# Altium schematic symbol library Udemy_Schematic_LIB.SchLib: 50 symbols
Pins are listed as number, name and electrical type; pins without a type are passive.

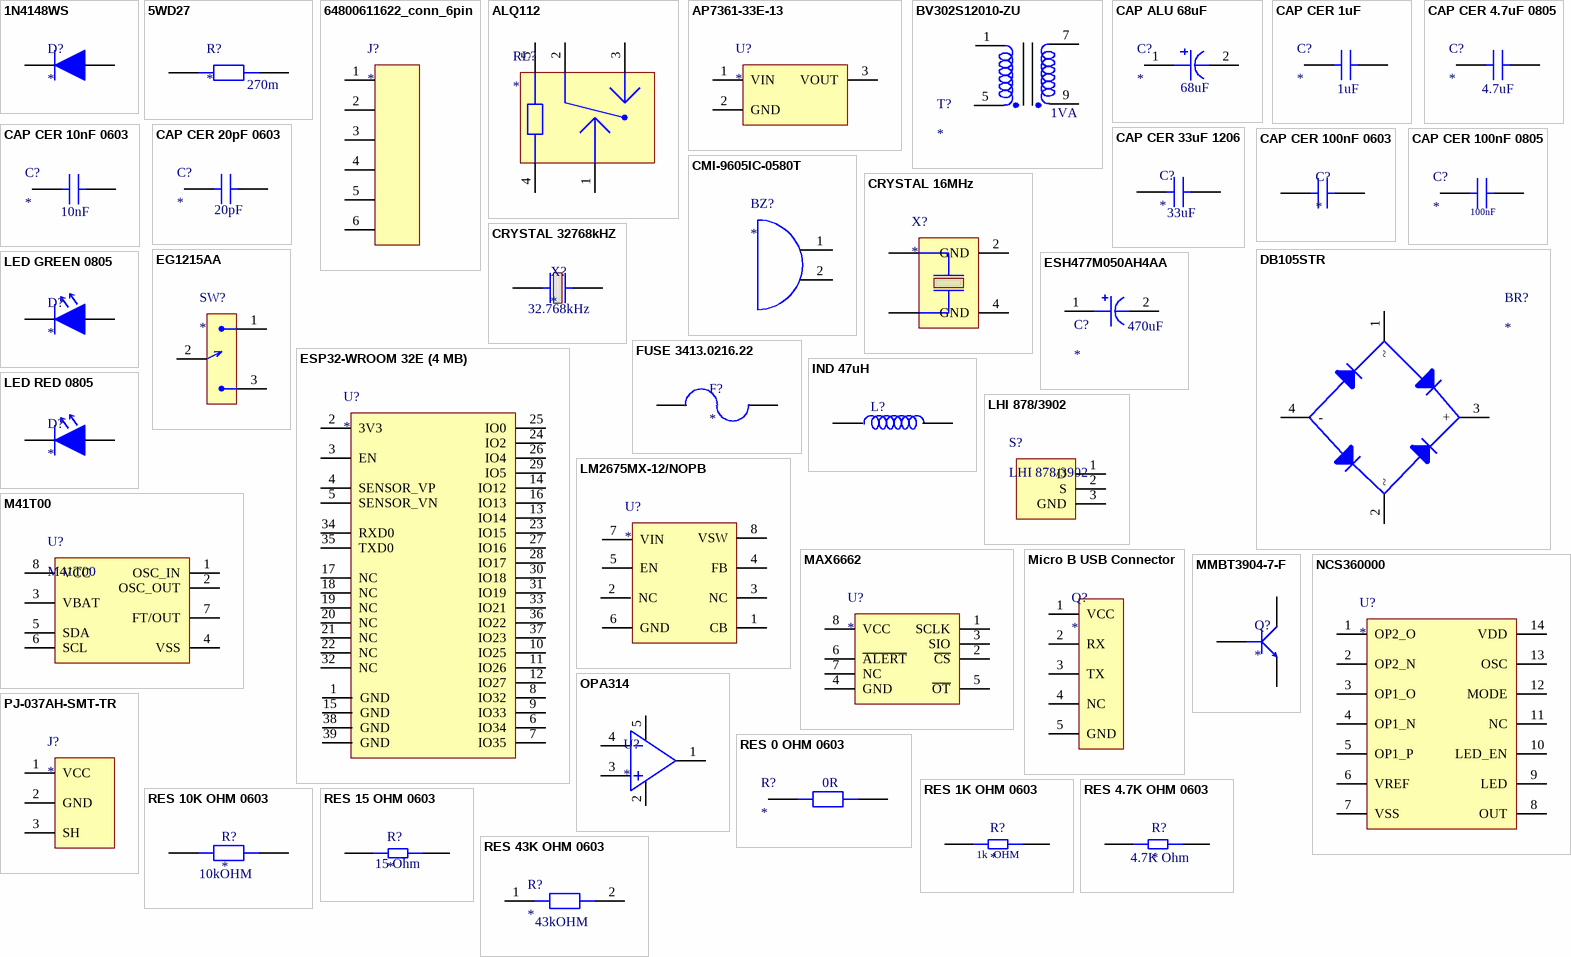
[diagram p0: symbols 1N4148WS to RES 43K OHM 0603]

## 1N4148WS
designator D?
VR=75V IF=150mA Trr=4ns P=200mW; Manufacturer: ON Semiconductor / Fairchild; Manufacturer Part Number: 1N4148WS; Supplier 1: Future Electronics; RoHS: Yes; Category: Rectifier Diodes; Stock 1: 423000; Pricing 1: 3000=0.0191, 12000=0.0183, 45000=0.0175, 75000=0.0173, 150000=0.0164 (USD); ComponentLink1URL: https://datasheet.ciiva.com/30479/0900766b810e1cd3-30479206.pdf?src-supplier=Rs; ComponentLink1Description: https://datasheet.ciiva.com/30479/0900766b810e1cd3-30479206.pdf?src-supplier=Rs; ComponentLink2URL: https://datasheet.ciiva.com/8300/1n914bws-8300360.pdf?src-supplier=Avnet; ComponentLink2Description: https://datasheet.ciiva.com/8300/1n914bws-8300360.pdf?src-supplier=Avnet; ComponentLink3URL: https://datasheet.ciiva.com/15208/getdatasheetpartid-127819-15208358.pdf?src-supplier=Verical; ComponentLink3Description: https://datasheet.ciiva.com/15208/getdatasheetpartid-127819-15208358.pdf?src-supplier=Verical; ComponentLink4URL: https://datasheet.ciiva.com/910/1n4148ws-910380.pdf?src-supplier=Digi-Key; ComponentLink4Description: https://datasheet.ciiva.com/910/1n4148ws-910380.pdf?src-supplier=Digi-Key; ComponentLink5URL: https://datasheet.ciiva.com/910/1n4148ws-910381.pdf?src-supplier=Digi-Key; ComponentLink5Description: https://datasheet.ciiva.com/910/1n4148ws-910381.pdf?src-supplier=Digi-Key; ComponentLink6URL: https://datasheet.ciiva.com/910/1n4148ws-910382.pdf?src-supplier=Digi-Key; ComponentLink6Description: https://datasheet.ciiva.com/910/1n4148ws-910382.pdf?src-supplier=Digi-Key; Supplier Part Number 1: 8814485
footprint SOD323F
pins: 1 (power), 2 (power)

## 5WD27
designator R?  Resistance: 270m
footprint RES_AXIAL_W
pins: 1, 2

## 64800611622_conn_6pin
designator J?
footprint 64800611622
pins: 1 (power), 2 (power), 3 (power), 4 (power), 5 (power), 6 (power)

## ALQ112
designator RL?
Case/Package: ALQ112
footprint ALQ112
pins: 1, 2, 3, 4, 5

## AP7361-33E-13
designator U?
AP7361 Series 3.3 V 1 A Low SMT Dropout Fixed-Mode Regulator - SOT-223; Manufacturer: Diodes; Manufacturer Part Number: AP7361-33E-13; Supplier 1: Future Electronics; RoHS: Yes; Category: Voltage Regulators - Linear; Stock 1: 15000; Pricing 1: 2500=0.17, 7500=0.166, 12500=0.163, 50000=0.158, 75000=0.154 (USD); ComponentLink1URL: https://datasheet.ciiva.com/26926/getdatasheetpartid-670786-26926141.pdf?src-supplier=Verical; ComponentLink1Description: https://datasheet.ciiva.com/26926/getdatasheetpartid-670786-26926141.pdf?src-supplier=Verical; ComponentLink2URL: https://datasheet.ciiva.com/25651/ap7361-25651049.pdf?src-supplier=Digi-Key; ComponentLink2Description: https://datasheet.ciiva.com/25651/ap7361-25651049.pdf?src-supplier=Digi-Key; ComponentLink3URL: https://datasheet.ciiva.com/29568/ap7361-29568378.pdf?src-supplier=Digi-Key; ComponentLink3Description: https://datasheet.ciiva.com/29568/ap7361-29568378.pdf?src-supplier=Digi-Key; ComponentLink4URL: https://datasheet.ciiva.com/29568/ap7361-29568379.pdf?src-supplier=Digi-Key; ComponentLink4Description: https://datasheet.ciiva.com/29568/ap7361-29568379.pdf?src-supplier=Digi-Key; Supplier Part Number 1: 4058800; Case/Package: SOT223
footprint SOT223
pins: 1 VIN, 2 GND, 3 VOUT

## BV302S12010-ZU
designator T?  Rated Power: 1VA
Primary Voltage: 230V; Secondary Voltage: 12V; Operating Frequency: 50-60 Hz
footprint BV302S
pins: 1, 5, 7, 9

## CAP ALU 68uF
designator C?  Capacitance: 68uF
footprint CAP EEVSERIES
pins: 1, 2

## CAP CER 1uF
designator C?  Cap: 1uF
footprint CAP 0805
pins: 1, 2

## CAP CER 4.7uF 0805
designator C?  Cap: 4.7uF
CAP CER 4.7UF 25V X5R 0805; Manufacturer: Samsung; Manufacturer Part Number: CL21A475KAQNNNE; Supplier 1: Arrow Electronics; RoHS: Yes; Category: Ceramic Capacitors; Stock 1: 906000; Pricing 1: 2000=0.0173, 4000=0.0169, 10000=0.0146, 14000=0.0133, 50000=0.0114, 100000=0.0096, 200000=0.0089 (USD); ComponentLink1URL: https://datasheet.ciiva.com/25798/cl21a475kaqnnne-25798882.pdf?src-supplier=Digi-Key; ComponentLink1Description: https://datasheet.ciiva.com/25798/cl21a475kaqnnne-25798882.pdf?src-supplier=Digi-Key; Supplier Part Number 1: CL21A475KAQNNNE
footprint CAP 0805
pins: 1, 2

## CAP CER 10nF 0603
designator C?  Capacitance: 10nF
footprint CAP_0603
pins: 1, 2

## CAP CER 20pF 0603
designator C?  Cap: 20pF
footprint CAP_0603
pins: 1, 2

## CAP CER 33uF 1206
designator C?  Capacitance: 33uF
footprint CAP_1206
pins: 1, 2

## CAP CER 100nF 0603
designator C?
Case/Package: 0603
footprint CAP_0603
pins: 1, 2

## CAP CER 100nF 0805
designator C?  Capacitance: 100nF
Multilayer Ceramic Capacitor, VJ Series, 0.1 - F, - 10%, X7R, 50 V, 0805 [2012 Metric]; Manufacturer: Vishay Vitramon; Manufacturer Part Number: VJ0805Y104KNAAT; Voltage Rating (DC): 50V; Supplier 1: Farnell; RoHS: Yes; Category: Ceramic Capacitors; Pricing 1: 5=0.523, 50=0.312, 250=0.297, 500=0.214, 1500=0.201, 3000=0.17, 15000=0.15, 30000=0.147 (EUR); Mount: Surface Mount; Case/Package: 0805; Case Code (Metric): 2012; Case Code (Imperial): 0805; Min Operating Temperature: -55°C; Max Operating Temperature: 125°C; Tolerance: 10%; Dielectric: X7R; Packaging: Tape and Reel; Termination: SMD/SMT; Series: VJ; Package Quantity: 1; Construction: Flat; Voltage Rating: 50V; Voltage: 50V; Length: 2mm; Width: 0.049inch; Height: 1.45mm; Depth: 1.25mm; Thickness: 0.057inch; Radiation Hardening: No; RoHS Compliant: Yes; Reach SVHC Compliant: Unknown; ComponentLink1URL: https://datasheet.ciiva.com/11785/0900766b8104796c-11785977.pdf?src-supplier=Rs; ComponentLink1Description: https://datasheet.ciiva.com/11785/0900766b8104796c-11785977.pdf?src-supplier=Rs; ComponentLink2URL: https://datasheet.ciiva.com/46417/1805046-46417861.pdf?src-supplier=Element14; ComponentLink2Description: https://datasheet.ciiva.com/46417/1805046-46417861.pdf?src-supplier=Element14; ComponentLink3URL: https://datasheet.ciiva.com/46417/1805046-46417862.pdf?src-supplier=Element14; ComponentLink3Description: https://datasheet.ciiva.com/46417/1805046-46417862.pdf?src-supplier=Element14; ComponentLink4URL: https://datasheet.ciiva.com/148/nonmagneticepoxybond-148471.pdf?src-supplier=Digi-Key; ComponentLink4Description: https://datasheet.ciiva.com/148/nonmagneticepoxybond-148471.pdf?src-supplier=Digi-Key; ComponentLink5URL: https://datasheet.ciiva.com/148/nonmagneticepoxybond-148472.pdf?src-supplier=Digi-Key; ComponentLink5Description: https://datasheet.ciiva.com/148/nonmagneticepoxybond-148472.pdf?src-supplier=Digi-Key; ComponentLink6URL: https://datasheet.ciiva.com/148/nonmagneticepoxybond-148473.pdf?src-supplier=Digi-Key; ComponentLink6Description: https://datasheet.ciiva.com/148/nonmagneticepoxybond-148473.pdf?src-supplier=Digi-Key; Supplier Part Number 1: 2407330
footprint CAP 0805
pins: 1, 2

## CMI-9605IC-0580T
designator BZ?
Audio Buzzer Magnetic 3VDC 7VDC 30mA 5VDC 85dB 2600Hz to 2800Hz Through Hole Pin Box; Manufacturer: CUI Devices; Manufacturer Part Number: CMI-9605IC-0580T; Supplier 1: Arrow Electronics; RoHS: No; Category: Audio Products; Stock 1: 1; Pricing 1: 1=1.3577, 10=1.146, 25=1.0571, 50=0.9935, 100=0.9263, 300=0.797, 600=0.7855 (USD); Supplier 2: Arrow Electronics; Stock 2: 1; Pricing 2: 1=1.3577, 10=1.146, 25=1.0571, 50=0.9935, 100=0.9263, 300=0.797, 600=0.7855 (USD); Supplier Part Number 2: CMI-9605IC-0580T; Case/Package: CMI-9605IC
footprint CMI-9605IC
pins: 1, 2

## CRYSTAL 16MHz
designator X?
Crystal 16MHz ±30ppm (Tol) ±50ppm (Stability) 20pF FUND 50Ohm 4-Pin Mini-SMD T/R; Manufacturer: Abracon; Manufacturer Part Number: ABS05-32.768KHZ-T; Supplier 1: Future Electronics; RoHS: Yes; Category: Crystals; Stock 1: 2890; Pricing 1: 1=0.85, 15=0.75, 75=0.69, 300=0.64, 1500=0.58 (USD); ComponentLink1URL: https://datasheet.ciiva.com/23810/abs05-23810480.pdf?src-supplier=Newark; ComponentLink1Description: https://datasheet.ciiva.com/23810/abs05-23810480.pdf?src-supplier=Newark; ComponentLink2URL: https://datasheet.ciiva.com/6728/abs05-6728949.pdf?src-supplier=Digi-Key; ComponentLink2Description: https://datasheet.ciiva.com/6728/abs05-6728949.pdf?src-supplier=Digi-Key; ComponentLink3URL: https://datasheet.ciiva.com/6728/abs05-6728950.pdf?src-supplier=Digi-Key; ComponentLink3Description: https://datasheet.ciiva.com/6728/abs05-6728950.pdf?src-supplier=Digi-Key; ComponentLink4URL: https://datasheet.ciiva.com/16411/abs05-16411149.pdf?src-supplier=Future+Electronics; ComponentLink4Description: https://datasheet.ciiva.com/16411/abs05-16411149.pdf?src-supplier=Future+Electronics; Supplier Part Number 1: 4097386; Supplier 2: Arrow Electronics; Stock 2: 17; Pricing 2: 1=0.8053, 10=0.7919 (USD); ComponentLink5URL: https://datasheet.ciiva.com/853/ecx-53b-853408.pdf?src-supplier=Digi-Key; ComponentLink5Description: https://datasheet.ciiva.com/853/ecx-53b-853408.pdf?src-supplier=Digi-Key; ComponentLink6URL: https://datasheet.ciiva.com/853/ecx-53b-853407.pdf?src-supplier=Digi-Key; ComponentLink6Description: https://datasheet.ciiva.com/853/ecx-53b-853407.pdf?src-supplier=Digi-Key; ComponentLink7URL: https://datasheet.ciiva.com/853/ecx-53b-853406.pdf?src-supplier=Digi-Key; ComponentLink7Description: https://datasheet.ciiva.com/853/ecx-53b-853406.pdf?src-supplier=Digi-Key; Supplier Part Number 2: ECS-160-20-30B-TR
footprint ECS
pins: 1, 2 GND, 3, 4 GND

## CRYSTAL 32768kHZ
designator X?  FREQ: 32.768kHz
Crystal 0.032768MHz ±20ppm (Tol) 12.5pF Flexural 90000Ohm 2-Pin CSMD T/R; Manufacturer: Abracon; Manufacturer Part Number: ABS05-32.768KHZ-T; Supplier 1: Future Electronics; RoHS: Yes; Category: Crystals; Stock 1: 2890; Pricing 1: 1=0.85, 15=0.75, 75=0.69, 300=0.64, 1500=0.58 (USD); ComponentLink1URL: https://datasheet.ciiva.com/23810/abs05-23810480.pdf?src-supplier=Newark; ComponentLink1Description: https://datasheet.ciiva.com/23810/abs05-23810480.pdf?src-supplier=Newark; ComponentLink2URL: https://datasheet.ciiva.com/6728/abs05-6728949.pdf?src-supplier=Digi-Key; ComponentLink2Description: https://datasheet.ciiva.com/6728/abs05-6728949.pdf?src-supplier=Digi-Key; ComponentLink3URL: https://datasheet.ciiva.com/6728/abs05-6728950.pdf?src-supplier=Digi-Key; ComponentLink3Description: https://datasheet.ciiva.com/6728/abs05-6728950.pdf?src-supplier=Digi-Key; ComponentLink4URL: https://datasheet.ciiva.com/16411/abs05-16411149.pdf?src-supplier=Future+Electronics; ComponentLink4Description: https://datasheet.ciiva.com/16411/abs05-16411149.pdf?src-supplier=Future+Electronics; Supplier Part Number 1: 4097386
footprint AB505
pins: 1, 2

## DB105STR
designator BR?
Bridge Rect 1PHASE 600V 1A Db-s; Manufacturer: SMC; Manufacturer Part Number: DB105STR; Supplier 1: Future Electronics; RoHS: No; Category: Industrial Control; Pricing 1: 1500=0.0744, 4500=0.0716, 15000=0.0686, 30000=0.067, 60000=0.064 (USD); Mount: Surface Mount; Case/Package: SMD/SMT; Min Operating Temperature: -55°C; Max Operating Temperature: 150°C; Packaging: Tape and Reel; Average Rectified Current: 1A; ComponentLink1URL: http://www.smc-diodes.com/propdf/DB101S%20THRU%20DB107S%20N1459%20REV.B.pdf?src-supplier=Digi-Key; ComponentLink1Description: http://www.smc-diodes.com/propdf/DB101S%20THRU%20DB107S%20N1459%20REV.B.pdf?src-supplier=Digi-Key; Supplier Part Number 1: 5119461; Case/Packag: *
footprint DB1
pins: 1 ~, 2 ~, 3 +, 4 -

## EG1215AA
designator SW?
Slide Switch, SPDT, 0.025A, 24V, SMD; Manufacturer: E-Switch; Manufacturer Part Number: EG1215AA; Mechanical Life: 10000Cycles; Switch Function: On-On; Actuator Type: Standard; Switch Travel: 1.5mm; Operating Force: 150gf; Actuator Length: 1.4mm; Supplier 1: Farnell; RoHS: Yes; Stock 1: 2239; Pricing 1: 1=1.06, 10=0.958, 25=0.831, 50=0.777, 100=0.722 (EUR); Mount: Surface Mount; Min Operating Temperature: -20°C; Max Operating Temperature: 70°C; Throw Configuration: SPDT; Packaging: Cut Tape; Voltage Rating (DC): 24V; Termination: Gull Wing; Electrical Life: 10000Cycles; Series: EG; RoHS Compliant: Yes; ComponentLink1URL: https://media.digikey.com/pdf/Data%20Sheets/E-Switch%20PDFs/EG1215_Series_Ds.pdf?src-supplier=Digi-Key; ComponentLink1Description: https://media.digikey.com/pdf/Data%20Sheets/E-Switch%20PDFs/EG1215_Series_Ds.pdf?src-supplier=Digi-Key; ComponentLink2URL: http://www.farnell.com/datasheets/2645007.pdf?src-supplier=Farnell; ComponentLink2Description: http://www.farnell.com/datasheets/2645007.pdf?src-supplier=Farnell; Supplier Part Number 1: 4050996
footprint EG121
pins: 1, 2, 3

## ESH477M050AH4AA
designator C?  Cap: 470uF
Cap, 470UF, 50V, Alu Elec, Radial; Manufacturer: KEMET; Manufacturer Part Number: ESH477M050AH4AA; Supplier 1: Mouser; RoHS: Yes; Stock 1: 3823; Pricing 1: 1=0.57, 10=0.4, 50=0.302, 100=0.263, 1000=0.263, 10000=0.263 (USD); ComponentLink1URL: https://api.kemet.com/component-edge/download/datasheet/ESH477M050AH4AA.pdf?src-supplier=Digi-Key; ComponentLink1Description: https://api.kemet.com/component-edge/download/datasheet/ESH477M050AH4AA.pdf?src-supplier=Digi-Key; ComponentLink2URL: https://datasheet.octopart.com/ESH477M050AH4AA-KEMET-datasheet-130075338.pdf?src-supplier=Newark; ComponentLink2Description: https://datasheet.octopart.com/ESH477M050AH4AA-KEMET-datasheet-130075338.pdf?src-supplier=Newark; Supplier Part Number 1: 80-ESH477M050AH4AA
footprint CAP_RADIAL_D10_P5
pins: 1, 2

## ESP32-WROOM 32E (4 MB)
designator U?
footprint ESP32-32E
pins: 1 GND, 2 3V3, 3 EN, 4 SENSOR_VP, 5 SENSOR_VN, 6 IO34, 7 IO35, 8 IO32, 9 IO33, 10 IO25, 11 IO26, 12 IO27, 13 IO14, 14 IO12, 15 GND, 16 IO13, 17 NC, 18 NC, 19 NC, 20 NC, 21 NC, 22 NC, 23 IO15, 24 IO2, 25 IO0, 26 IO4, 27 IO16, 28 IO17, 29 IO5, 30 IO18, 31 IO19, 32 NC, 33 IO21, 34 RXD0, 35 TXD0, 36 IO22, 37 IO23, 38 GND, 39 GND

## FUSE 3413.0216.22
designator F?
Fuse Chip Fast Acting 1A 32V SMD Solder Pad 1206 Glass T/R VDE/cULus; Manufacturer: Schurter; Manufacturer Part Number: 3413.0216.22; Supplier 1: Avnet; RoHS: Yes; Category: Fuses; Stock 1: 2000; Pricing 1: 1000=0.37339, 2000=0.3654, 4000=0.35496, 6000=0.34713, 8000=0.33408, 10000=0.32625, 100000=0.31842 (USD); ComponentLink1URL: https://datasheet.ciiva.com/301/typ-usi-1206-301440.pdf?src-supplier=Digi-Key; ComponentLink1Description: https://datasheet.ciiva.com/301/typ-usi-1206-301440.pdf?src-supplier=Digi-Key; ComponentLink2URL: https://datasheet.ciiva.com/14102/qousi1206-data-e-14102903.pdf?src-supplier=Distrelec; ComponentLink2Description: https://datasheet.ciiva.com/14102/qousi1206-data-e-14102903.pdf?src-supplier=Distrelec; ComponentLink3URL: https://datasheet.ciiva.com/16316/typ-usi-1206-16316588.pdf?src-supplier=Future+Electronics; ComponentLink3Description: https://datasheet.ciiva.com/16316/typ-usi-1206-16316588.pdf?src-supplier=Future+Electronics; ComponentLink4URL: https://datasheet.ciiva.com/301/typ-usi-1206-301439.pdf?src-supplier=Digi-Key; ComponentLink4Description: https://datasheet.ciiva.com/301/typ-usi-1206-301439.pdf?src-supplier=Digi-Key; ComponentLink5URL: https://datasheet.ciiva.com/301/typ-usi-1206-301441.pdf?src-supplier=Digi-Key; ComponentLink5Description: https://datasheet.ciiva.com/301/typ-usi-1206-301441.pdf?src-supplier=Digi-Key; ComponentLink6URL: https://datasheet.ciiva.com/8264/typ-usi-1206-8264583.pdf?src-supplier=Avnet; ComponentLink6Description: https://datasheet.ciiva.com/8264/typ-usi-1206-8264583.pdf?src-supplier=Avnet; ComponentLink7URL: https://datasheet.ciiva.com/14541/70160006-14541114.pdf?src-supplier=Allied+Electronics; ComponentLink7Description: https://datasheet.ciiva.com/14541/70160006-14541114.pdf?src-supplier=Allied+Electronics; Supplier Part Number 1: 3413.0216.22
footprint FUSE 3413.0216.22
pins: 1, 2

## IND 47uH
designator L?
Power Inductor, Aec-Q200, 47Uh, 0.39A Rohs Compliant: Yes |Wurth Elektronik 78438335470; Manufacturer: Wurth Electronics; Core Material: Ferrite; Current Rating: 390mA; Saturation Current: 1.18A; Shielding: Shielded; DC Resistance (DCR): 2.3R; Self Resonant Frequency: 8MHz; Test Frequency: 100kHz; Tolerance: 30%; Supplier 1: Farnell; Manufacturer Part Number: 78438335470; RoHS: Yes; Category: Fixed Inductors; Stock 1: 1175; Pricing 1: 1=1.76, 50=1.67, 100=1.6, 250=1.52, 500=1.41, 1000=1.38, 5000=1.35, 10000=1.33 (EUR); Mount: Surface Mount; Case/Package: 1212; Case Code (Metric): 3030; Case Code (Imperial): 1212; Min Operating Temperature: -40°C; Max Operating Temperature: 125°C; Packaging: Cut Tape; Inductance: 47uH; Series: WE-MAIA; Length: 0.118inch; Width: 0.118inch; Height - Seated (Max): 0.059inch; Ratings: AEC-Q200; RoHS Compliant: Yes; ComponentLink1URL: https://media.digikey.com/pdf/Data%20Sheets/Wurth%20Electronics%20PDFs/Q+_Products_Flyer.pdf?src-supplier=Digi-Key; ComponentLink1Description: https://media.digikey.com/pdf/Data%20Sheets/Wurth%20Electronics%20PDFs/Q+_Products_Flyer.pdf?src-supplier=Digi-Key; Supplier Part Number 1: 3517060
footprint IND_1212
pins: 1, 2

## LED GREEN 0805
designator D?
footprint LED GREEN 0805
pins: 1 (power), 2 (power)

## LED RED 0805
designator D?
footprint LED RED 0805
pins: 1 (power), 2 (power)

## LHI 878/3902
designator S?
MAX Supply Voltage: 12; MIN Supply Voltage: 2
footprint LHI 878
pins: 1 D, 2 S, 3 GND

## LM2675MX-12/NOPB
designator U?
SIMPLE SWITCHER® 6.5V to 40V, 1A Low Component Count Step-Down Regulator 8-SOIC -40 to 125; Manufacturer: TI National Semiconductor; Manufacturer Part Number: LM2675MX-12/NOPB; Supplier 1: Digi-Key; RoHS: Yes; Category: Voltage Regulators - Switching; Pricing 1: 1=4.85, 10=4.356, 25=4.1184, 100=3.5693, 250=3.38624, 500=3.03846, 1000=2.56256 (USD); ComponentLink1URL: https://datasheet.ciiva.com/41457/001013881-da-01-en-ic-reg-buck-lm2675mx-12-nopb-soic-8-tid-41457896.pdf?src-supplier=Conrad; ComponentLink1Description: https://datasheet.ciiva.com/41457/001013881-da-01-en-ic-reg-buck-lm2675mx-12-nopb-soic-8-tid-41457896.pdf?src-supplier=Conrad; ComponentLink2URL: https://datasheet.ciiva.com/3220/lm2675-3220840.pdf?src-supplier=Avnet; ComponentLink2Description: https://datasheet.ciiva.com/3220/lm2675-3220840.pdf?src-supplier=Avnet; Supplier Part Number 1: 296-35410-1-ND
footprint SOIC8
pins: 1 CB, 2 NC, 3 NC, 4 FB, 5 EN, 6 GND, 7 VIN, 8 VSW

## M41T00
designator U?
Real-time Clocks Clock/Calendar I2C, 2-Wire Serial 70uA @ 2V ~ 5.5V SOIC-8_150mil RoHS; Manufacturer: STMicroelectronics; Manufacturer Part Number: M41T00M6F; Supplier 1: Digi-Key; RoHS: Yes; Category: Real Time Clocks; Stock 1: 5505; Pricing 1: 1=3.96, 10=3.556, 25=3.3616, 100=2.9134, 250=2.76404, 500=2.48016, 1000=2.11425 (USD); ComponentLink1URL: https://datasheet.ciiva.com/7630/1837112-7630077.pdf?src-supplier=Element14; ComponentLink1Description: https://datasheet.ciiva.com/7630/1837112-7630077.pdf?src-supplier=Element14; ComponentLink2URL: https://datasheet.ciiva.com/16213/cd00001542-16213654.pdf?src-supplier=Future+Electronics; ComponentLink2Description: https://datasheet.ciiva.com/16213/cd00001542-16213654.pdf?src-supplier=Future+Electronics; ComponentLink3URL: https://datasheet.ciiva.com/41459/001185345-da-01-en-ic-rtc-srl-512kbit-m41t00m6f-soic-8-stm-41459818.pdf?src-supplier=Conrad; ComponentLink3Description: https://datasheet.ciiva.com/41459/001185345-da-01-en-ic-rtc-srl-512kbit-m41t00m6f-soic-8-stm-41459818.pdf?src-supplier=Conrad; Supplier Part Number 1: 497-4697-1-ND
footprint SOIC8
pins: 1 OSC_IN, 2 OSC_OUT, 3 VBAT, 4 VSS, 5 SDA, 6 SCL, 7 FT/OUT, 8 VCC

## MAX6662
designator U?
Temp Sensor Digital Serial (3-Wire, SPI) 8-Pin SOIC N Tube; Manufacturer: Maxim; Manufacturer Part Number: MAX6662MSA+; Supplier 1: Mouser; RoHS: Yes; Category: Temperature and Humidity Sensors; Stock 1: 1124; Pricing 1: 1=2.45, 10=2.35, 50=2.35, 100=2.34, 1000=2.2, 10000=1.95 (USD); ComponentLink1URL: https://datasheet.ciiva.com/5299/max6662-89142-5299456.pdf?src-supplier=Mouser; ComponentLink1Description: https://datasheet.ciiva.com/5299/max6662-89142-5299456.pdf?src-supplier=Mouser; ComponentLink2URL: https://datasheet.ciiva.com/3277/max6662-3277979.pdf?src-supplier=Avnet; ComponentLink2Description: https://datasheet.ciiva.com/3277/max6662-3277979.pdf?src-supplier=Avnet; ComponentLink3URL: https://datasheet.ciiva.com/2003/max6662-2003390.pdf?src-supplier=Digi-Key; ComponentLink3Description: https://datasheet.ciiva.com/2003/max6662-2003390.pdf?src-supplier=Digi-Key; Supplier Part Number 1: 700-MAX6662MSA
footprint SOIC8
pins: 1 SCLK, 2 ~{CS}, 3 SIO, 4 GND, 5 ~{OT}, 6 ~{ALERT}, 7 NC, 8 VCC

## Micro B USB Connector
designator Q?
footprint MICRO_B_USB
pins: 1 VCC (power), 2 RX (power), 3 TX (power), 4 NC (power), 5 GND (power)

## MMBT3904-7-F
designator Q?
footprint SOT-23F
pins: 1 B (power), 2 E (power), 3 C (power)

## NCS360000
designator U?
NCS36000 Series Single 5.5V Passive Infrared Detector Controller (PIR) - SOIC-14; Manufacturer: ON Semiconductor; Manufacturer Part Number: NCS36000DG; Supplier 1: Avnet; RoHS: Yes; Category: Amplifiers - Op Amps, Buffer, Instrumentation; Stock 1: 1785; Pricing 1: 55=0.582, 60=0.56648, 120=0.55096, 280=0.53544, 550=0.51992 (USD); ComponentLink1URL: https://datasheet.ciiva.com/25629/0900766b810de37b-25629154.pdf?src-supplier=Rs; ComponentLink1Description: https://datasheet.ciiva.com/25629/0900766b810de37b-25629154.pdf?src-supplier=Rs; ComponentLink2URL: https://datasheet.ciiva.com/2965/ncs36000-d-2965211.pdf?src-supplier=Avnet; ComponentLink2Description: https://datasheet.ciiva.com/2965/ncs36000-d-2965211.pdf?src-supplier=Avnet; ComponentLink3URL: https://datasheet.ciiva.com/1782/ncs36000-d-1782043.pdf?src-supplier=Digi-Key; ComponentLink3Description: https://datasheet.ciiva.com/1782/ncs36000-d-1782043.pdf?src-supplier=Digi-Key; Supplier Part Number 1: NCS36000DG
footprint SOIC14
pins: 1 OP2_O, 2 OP2_N, 3 OP1_O, 4 OP1_N, 5 OP1_P, 6 VREF, 7 VSS, 8 OUT, 9 LED, 10 LED_EN, 11 NC, 12 MODE, 13 OSC, 14 VDD

## OPA314
designator U?
IC OPAMP GP 3MHZ RRO SOT23-5; Manufacturer: Texas Instruments; Manufacturer Part Number: OPA314AIDBVR; Supplier 1: Digi-Key; RoHS: Yes; Category: Amplifiers - Op Amps, Buffer, Instrumentation; Stock 1: 278; Pricing 1: 1=1.19, 10=1.065, 25=1.0104, 100=0.83, 250=0.77588, 500=0.68568, 1000=0.54132 (USD); ComponentLink1URL: https://datasheet.ciiva.com/14456/opa2314-14456281.pdf?src-supplier=Avnet; ComponentLink1Description: https://datasheet.ciiva.com/14456/opa2314-14456281.pdf?src-supplier=Avnet; ComponentLink2URL: https://datasheet.ciiva.com/14462/opa2314-14462006.pdf?src-supplier=Avnet; ComponentLink2Description: https://datasheet.ciiva.com/14462/opa2314-14462006.pdf?src-supplier=Avnet; ComponentLink3URL: https://datasheet.ciiva.com/29638/opa314-29638827.pdf?src-supplier=Digi-Key; ComponentLink3Description: https://datasheet.ciiva.com/29638/opa314-29638827.pdf?src-supplier=Digi-Key; Supplier Part Number 1: 296-36699-1-ND
footprint SOT23-5
pins: 1, 2, 3, 4, 5

## PJ-037AH-SMT-TR
designator J?
2.0 x 6.3 mm, 5.0 A, Horizontal, Surface Mount (SMT), Dc Power Jack Connector; Manufacturer: CUI; Manufacturer Part Number: PJ-037AH-SMT-TR; Number of Conductors: 2; Gender: Male; Shielding: Unshielded; Current Rating: 5A; Voltage Rating: 24V; Insulation Resistance: 100MR; Supplier 1: Mouser; RoHS: Yes; Category: Uncategorized; Mount: Surface Mount,Through Hole; Case/Package: SMD/SMT; Color: Black; Contact Material: Copper; Contact Plating: Nickel; Housing Color: Black; Housing Material: Thermoplastic; Min Operating Temperature: -25°C; Max Operating Temperature: 85°C; Orientation: Horizontal; Package Quantity: 200; Termination: Solder; Connector Type: Jack; Contact Gender: Male; Packaging: Tape and Reel; Flammability Rating: UL94 V-0; ComponentLink1URL: http://www.mouser.com/ds/2/670/pj-037ah-smt-516065.pdf?src-supplier=Mouser; ComponentLink1Description: http://www.mouser.com/ds/2/670/pj-037ah-smt-516065.pdf?src-supplier=Mouser; ComponentLink2URL: https://www.cui.com/product/resource/digikeypdf/pj-037ah-smt-tr.pdf?src-supplier=Digi-Key; ComponentLink2Description: https://www.cui.com/product/resource/digikeypdf/pj-037ah-smt-tr.pdf?src-supplier=Digi-Key; ComponentLink3URL: http://www.cui.com/product/resource/digikeypdf/pj-037ah-smt.pdf?src-supplier=Digi-Key; ComponentLink3Description: http://www.cui.com/product/resource/digikeypdf/pj-037ah-smt.pdf?src-supplier=Digi-Key; Supplier Part Number 1: 490-PJ-037AH-SMT-TR
footprint JACk
pins: 1 VCC (power), 2 GND (power), 3 SH (power)

## RES 0 OHM 0603
designator R?  Resistance: 0R
Res Metal Strip 0603 0 Ohm Sulfur Resistant Pad SMD Automotive T/R; Manufacturer: Vishay Dale; Manufacturer Part Number: WSL060300000ZEA9; Temperature Coefficient: 3900ppm/°C; Supplier 1: Mouser; RoHS: Yes; Category: Chip SMD Resistors; Stock 1: 50899; Pricing 1: 1=1.09, 10=0.846, 50=0.846, 100=0.699, 1000=0.433, 10000=0.402 (USD); Case/Package: 0603; Case Code (Imperial): 0603; Case Code (Metric): 1608; Contact Plating: Tin,Matte; Min Operating Temperature: -65°C; Max Operating Temperature: 170°C; Packaging: Cut Tape; Series: WSL; Number of Terminations: 2; RoHS Compliant: Yes; ComponentLink1URL: http://www.mouser.com/ds/2/427/wsl-101914.pdf?src-supplier=Mouser; ComponentLink1Description: http://www.mouser.com/ds/2/427/wsl-101914.pdf?src-supplier=Mouser; ComponentLink2URL: http://www.vishay.com/docs/30100/wsl.pdf?src-supplier=Avnet; ComponentLink2Description: http://www.vishay.com/docs/30100/wsl.pdf?src-supplier=Avnet; ComponentLink3URL: http://www.vishay.com/docs/30192/wsl-9.pdf?src-supplier=Digi-Key; ComponentLink3Description: http://www.vishay.com/docs/30192/wsl-9.pdf?src-supplier=Digi-Key; Supplier Part Number 1: 71-WSL060300000ZEA9
footprint RES_0603
pins: 1, 2

## RES 1K OHM 0603
designator R?  Reisitance: 1k  OHM
footprint RES_0603
pins: 1, 2

## RES 4.7K OHM 0603
designator R?  Resistance: 4.7K Ohm
footprint RES_0603
pins: 1, 2

## RES 10K OHM 0603
designator R?  Resistance: 10kOHM
footprint RES_0603
pins: 1, 2

## RES 15 OHM 0603
designator R?  Resistance: 15 Ohm
footprint RES_0603
pins: 1, 2

## RES 43K OHM 0603
designator R?  Resistance: 43kOHM
footprint RES_0603
pins: 1, 2

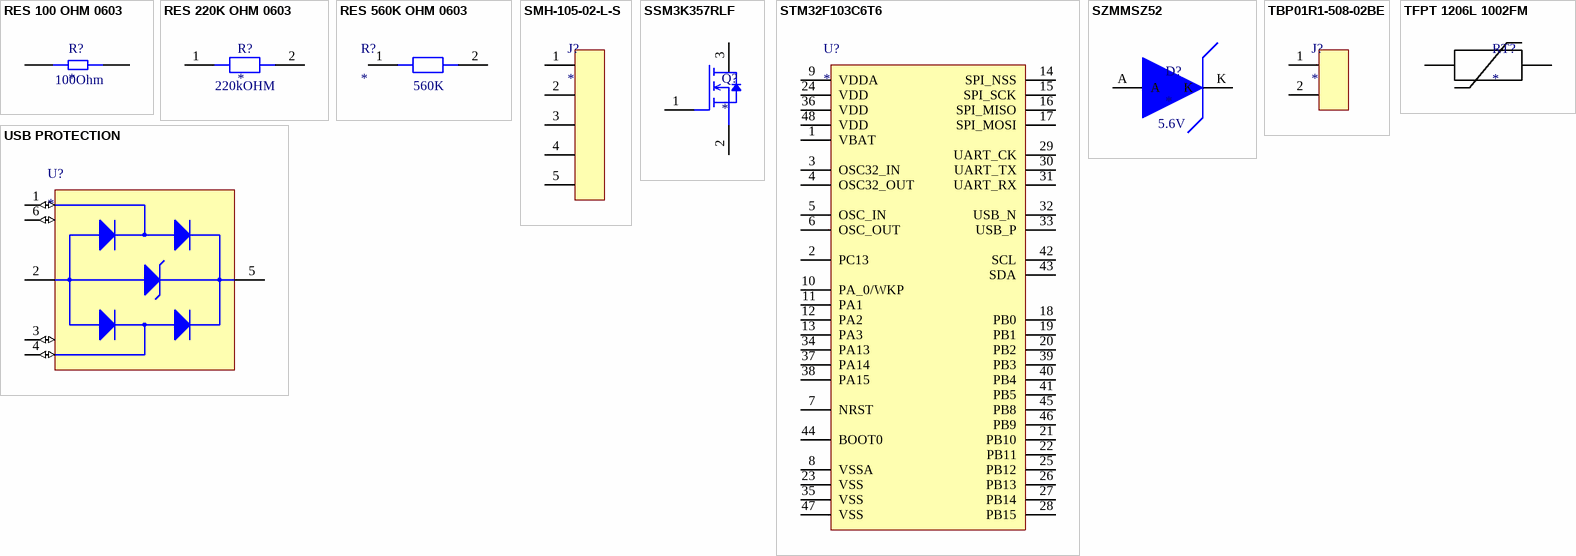
[diagram p1: symbols RES 100 OHM 0603 to USB PROTECTION]

## RES 100 OHM 0603
designator R?  Resistance: 100Ohm
footprint RES_0603
pins: 1, 2

## RES 220K OHM 0603
designator R?  Resistance: 220kOHM
footprint RES_0603
pins: 1, 2

## RES 560K OHM 0603
designator R?  RES: 560K
footprint RES_0603
pins: 1, 2

## SMH-105-02-L-S
designator J?
footprint PINHEADER1X5_RA
pins: 1 (power), 2 (power), 3 (power), 4 (power), 5 (power)

## SSM3K357RLF
designator Q?
Case/Package: SOT23
footprint SOT-23F
pins: 1, 2, 3

## STM32F103C6T6
designator U?
footprint LQFP-48 (7mm x 7mm)
pins: 1 VBAT, 2 PC13, 3 OSC32_IN, 4 OSC32_OUT, 5 OSC_IN, 6 OSC_OUT, 7 NRST, 8 VSSA, 9 VDDA, 10 PA_0/WKP, 11 PA1, 12 PA2, 13 PA3, 14 SPI_NSS, 15 SPI_SCK, 16 SPI_MISO, 17 SPI_MOSI, 18 PB0, 19 PB1, 20 PB2, 21 PB10, 22 PB11, 23 VSS, 24 VDD, 25 PB12, 26 PB13, 27 PB14, 28 PB15, 29 UART_CK, 30 UART_TX, 31 UART_RX, 32 USB_N, 33 USB_P, 34 PA13, 35 VSS, 36 VDD, 37 PA14, 38 PA15, 39 PB3, 40 PB4, 41 PB5, 42 SCL, 43 SDA, 44 BOOT0, 45 PB8, 46 PB9, 47 VSS, 48 VDD

## SZMMSZ52
designator D?  Zener Voltage: 5.6V
Diode Zener Single 16V 5% 500mW Automotive 2-Pin SOD-123 T/R; Manufacturer: ON Semiconductor; Manufacturer Part Number: SZMMSZ5246BT1G; Supplier 1: Arrow Electronics; RoHS: Yes; Category: Zener Diodes; Stock 1: 14410; Pricing 1: 1=0.3412, 10=0.2585, 25=0.2552, 100=0.1485, 250=0.1467, 500=0.0977, 1000=0.0743, 3000=0.0616, 6000=0.0574 (USD); ComponentLink1URL: https://datasheet.ciiva.com/10638/mmsz5221bt1-d-10638284.pdf?src-supplier=Avnet; ComponentLink1Description: https://datasheet.ciiva.com/10638/mmsz5221bt1-d-10638284.pdf?src-supplier=Avnet; ComponentLink2URL: https://datasheet.ciiva.com/900/mmsz5221bt1-d-900242.pdf?src-supplier=Digi-Key; ComponentLink2Description: https://datasheet.ciiva.com/900/mmsz5221bt1-d-900242.pdf?src-supplier=Digi-Key; Supplier Part Number 1: SZMMSZ5246BT1G
footprint SZM
pins: A, K

## TBP01R1-508-02BE
designator J?
footprint TBP01R1-508
pins: 1 (power), 2 (power)

## TFPT 1206L 1002FM
designator RT?
Thermistor PTC 10K Ohm 1% 2-Pin 1206 Surface Mount Solder Pad T/R Automotive; Manufacturer: Vishay Dale; Manufacturer Part Number: TFPT1206L1002FM; Resistance: 10kR; Power Rating: 125mW; Voltage: 40V; Supplier 1: Mouser; RoHS: Yes; Category: Thermistors; Stock 1: 7122; Pricing 1: 1=1.34, 10=1.05, 50=1.05, 100=0.714, 1000=0.53, 10000=0.453 (USD); Mount: Surface Mount; Case/Package: 1206; Case Code (Imperial): 1206; Min Operating Temperature: -55°C; Max Operating Temperature: 125°C; Packaging: Tape and Reel; Package Quantity: 5000; Tolerance: 1%; Max Power Dissipation: 125mW; Termination: SMD/SMT; Series: TFPT; Resistance Tolerance: 1%; Length: 3.2mm; Width: 1.6mm; Height: 0.55mm; Lead Free: Lead Free; RoHS Compliant: Yes; ComponentLink1URL: https://datasheet.ciiva.com/2852/tfpt-2852076.pdf?src-supplier=Digi-Key; ComponentLink1Description: https://datasheet.ciiva.com/2852/tfpt-2852076.pdf?src-supplier=Digi-Key; Supplier Part Number 1: 71-TFPT1206L1002FM
footprint RES_1206
pins: 1, 2

## USB PROTECTION
designator U?
TVS DIODE 5.25VWM 17VC SOT23-6; Manufacturer: STMicroelectronics; Manufacturer Part Number: USBLC6-2SC6; Supplier 1: Mouser; RoHS: Yes; Category: TVS Diodes; Stock 1: 229222; Pricing 1: 1=0.59, 10=0.507, 50=0.507, 100=0.379, 1000=0.23, 10000=0.182 (USD); ComponentLink1URL: https://datasheet.ciiva.com/15143/getdatasheetpartid-148465-15143789.pdf?src-supplier=Verical; ComponentLink1Description: https://datasheet.ciiva.com/15143/getdatasheetpartid-148465-15143789.pdf?src-supplier=Verical; ComponentLink2URL: https://datasheet.ciiva.com/4508/cd00050750-113117-4508433.pdf?src-supplier=Mouser; ComponentLink2Description: https://datasheet.ciiva.com/4508/cd00050750-113117-4508433.pdf?src-supplier=Mouser; ComponentLink3URL: https://datasheet.ciiva.com/1268/1690354-1268384.pdf?src-supplier=Element14; ComponentLink3Description: https://datasheet.ciiva.com/1268/1690354-1268384.pdf?src-supplier=Element14; ComponentLink4URL: https://datasheet.ciiva.com/16200/cd00050750-16200026.pdf?src-supplier=Future+Electronics; ComponentLink4Description: https://datasheet.ciiva.com/16200/cd00050750-16200026.pdf?src-supplier=Future+Electronics; ComponentLink5URL: https://datasheet.ciiva.com/41444/001184109-da-01-en-ic-esd-protecti-usblc6-2sc6-sot-23-6-stm-41444156.pdf?src-supplier=Conrad; ComponentLink5Description: https://datasheet.ciiva.com/41444/001184109-da-01-en-ic-esd-protecti-usblc6-2sc6-sot-23-6-stm-41444156.pdf?src-supplier=Conrad; Supplier Part Number 1: 511-USBLC6-2SC6
footprint SOT23-6L
pins: 1 I/O1 (io), 2 GND (power), 3 I/O2 (io), 4 I/O2 (io), 5 VBUS (power), 6 I/O1 (io)